# Altium schematic symbol library Lib.SchLib: 2 symbols
Pins are listed as number, name and electrical type; pins without a type are passive.

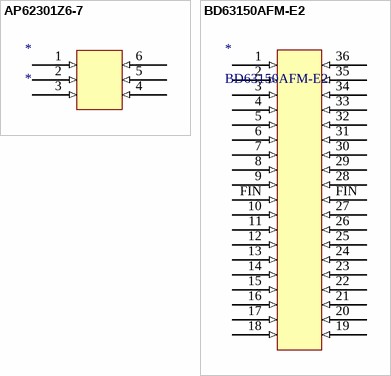
[diagram p0: symbols AP62301Z6-7 to BD63150AFM-E2]

## AP62301Z6-7
designator *
Switching Voltage Regulators DCDC Conv HV Buck SOT563 T&R 3K
pins: 1 (in), 2 (in), 3 (in), 4 (in), 5 (in), 6 (in)

## BD63150AFM-E2
designator * 
DC Driver
pins: 1 (in), 2 (in), 3 (in), 4 (in), 5 (in), 6 (in), 7 (in), 8 (in), 9 (in), 10 (in), 11 (in), 12 (in), 13 (in), 14 (in), 15 (in), 16 (in), 17 (in), 18 (in), 19 (in), 20 (in), 21 (in), 22 (in), 23 (in), 24 (in), 25 (in), 26 (in), 27 (in), 28 (in), 29 (in), 30 (in), 31 (in), 32 (in), 33 (in), 34 (in), 35 (in), 36 (in), FIN (in), FIN (in)